# Altium footprint library SM_2-SMD.PcbLib: 1 footprints
Each footprint in its own frame and in the unit in brackets; x right, y up, seen from the top. Pads: shape width x height; smd on the part's side, far side on the other; paste and mask are expansions set on the pad; w line width, h text height; cw(c..) or ccw(c..) is an arc to the next point about the centre after c.
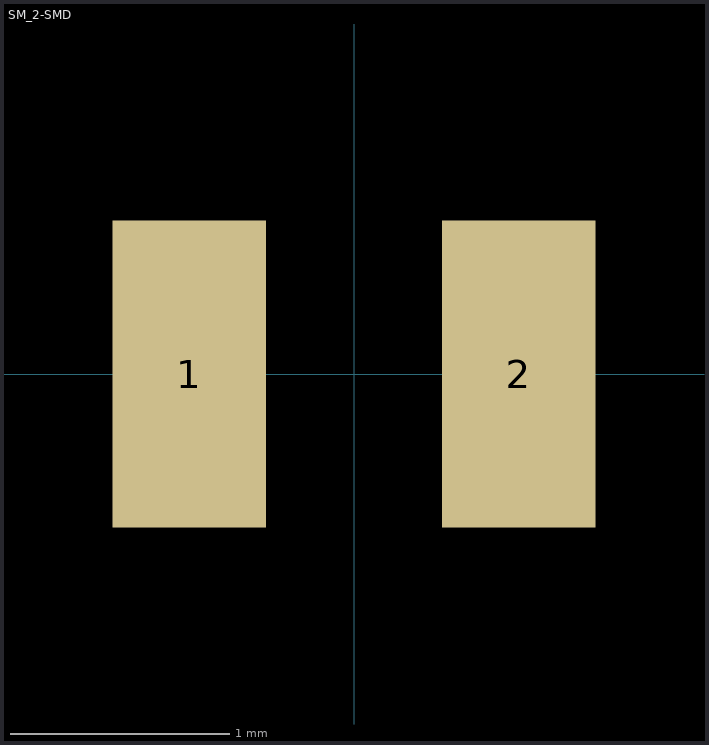
[diagram p0: the footprint, top view; thin cyan lines are the x and y axes]

## SM_2-SMD [mm]
pads (2):
  rect 0.7x1.4 smd: 1(-0.75,0) 2(0.75,0)
3D body: height 0.6, standoff 0, extent -1.05,-0.625 1.05,0.625